# Altium footprint library Diodes-SOD.PcbLib: 3 footprints
Each footprint in its own frame and in the unit in brackets; x right, y up, seen from the top. Pads: shape width x height; smd on the part's side, far side on the other; paste and mask are expansions set on the pad; w line width, h text height; cw(c..) or ccw(c..) is an arc to the next point about the centre after c.
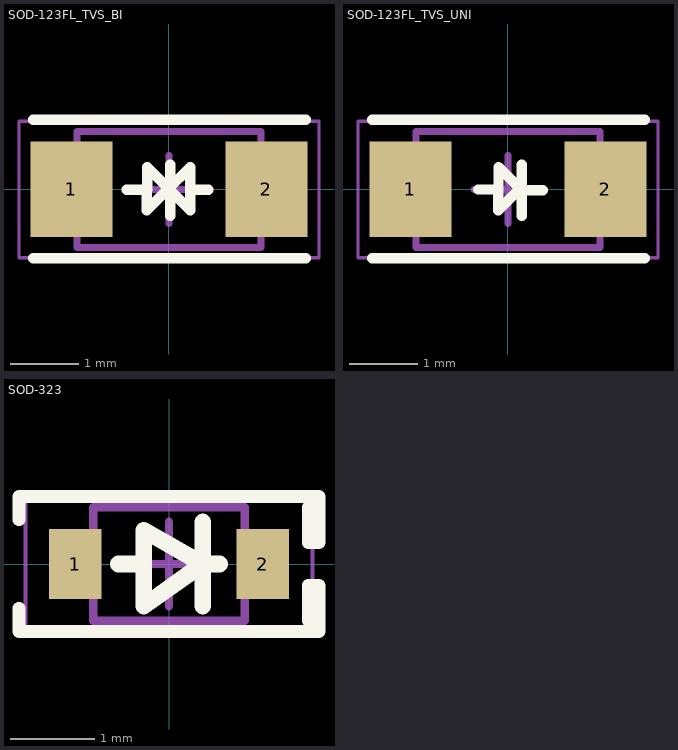
[diagram p0: the footprints below, top view; thin cyan lines are the x and y axes]

## SOD-123FL_TVS_BI [mm]
pads (2):
  rect 1.2x1.4 smd: 1(-1.43,0) 2(1.43,0)
Top Overlay:
  lines w0.15: -1.994,-1.01 2.006,-1.01 ; -1.994,1.022 2.006,1.022
  lines w0.152: -0.621,-0.004 -0.321,-0.004 -0.321,0.326 -0.002,0.007 -0.01,0.007 ; -0.323,-0.006 -0.323,-0.307 -0.01,0.007 ; 0.018,-0.389 0.018,0.361 ; 0.018,0.034 0.018,-0.013 0.312,-0.307 0.312,0.328 -0.01,0.007 ; 0.379,-0.004 0.579,-0.004
Mechanical 13:
  lines w0.1: -1.35,-0.85 1.35,-0.85 1.35,0.85 -1.35,0.85 -1.35,-0.85
Mechanical 15:
  lines w0.05: -2.2,-1 2.2,-1 2.2,1 -2.2,1 -2.2,-1
  lines w0.1: -0.5,0 0.5,0 ; 0,-0.5 0,0.5
3D body "SOD123F.STEP": height 1.1, standoff 0, extent -1.75,-0.8 1.75,0.8

## SOD-123FL_TVS_UNI [mm]
pads (2):
  rect 1.2x1.4 smd: 1(-1.43,0) 2(1.43,0)
Top Overlay:
  lines w0.15: -1.994,-1.01 2.006,-1.01 ; -1.994,1.022 2.006,1.022
  lines w0.152: -0.44,-0.001 -0.14,-0.001 -0.14,0.329 0.179,0.01 ; -0.142,-0.003 -0.142,-0.304 0.172,0.01 ; 0.199,-0.385 0.199,0.365 ; 0.199,-0.01 0.508,-0.01
Mechanical 13:
  lines w0.1: -1.35,-0.85 1.35,-0.85 1.35,0.85 -1.35,0.85 -1.35,-0.85
Mechanical 15:
  lines w0.05: -2.2,-1 2.2,-1 2.2,1 -2.2,1 -2.2,-1
  lines w0.1: -0.5,0 0.5,0 ; 0,-0.5 0,0.5
3D body "SOD123F.STEP": height 1.1, standoff 0, extent -1.75,-0.8 1.75,0.8

## SOD-323 [mm] "SOD, 2-Leads, Body 1.25x2.50mm, IPC Medium Density"
height 0.8
pads (2):
  rect 0.625x0.83 smd: 1(-1.112,0) 2(1.112,0)
Top Overlay:
  lines w0.15: -1.778,-0.525 -1.778,-0.8 1.778,-0.8 ; -1.778,0.525 -1.778,0.8 1.778,0.8 ; 1.778,-0.8 1.651,-0.673 1.651,-0.254 1.778,-0.254 1.778,-0.8 ; 1.778,0.8 1.651,0.673 1.651,0.254 1.778,0.254 1.778,0.8
  lines w0.2: -0.6,0 -0.3,0 ; 0.4,-0.5 0.4,0.5 ; 0.6,0 0.4,0 ; 0.4,0 -0.3,0.4 -0.3,-0.5 0.4,0
Mechanical 13:
  lines w0.1: -0.9,-0.675 -0.9,0.675 0.9,0.675 0.9,-0.675 -0.9,-0.675
Mechanical 15:
  lines w0.05: -1.7,-0.85 -1.7,0.85 1.7,0.85 1.7,-0.85 -1.7,-0.85
  lines w0.1: -0.5,0 0.5,0 ; 0,-0.5 0,0.5
3D body "SOD-323.step": height 1.05, standoff 0, extent -1.36,-0.625 1.36,0.625